# Altium schematic symbol library led.SchLib: 42 symbols
Pins are listed as number, name and electrical type; pins without a type are passive.

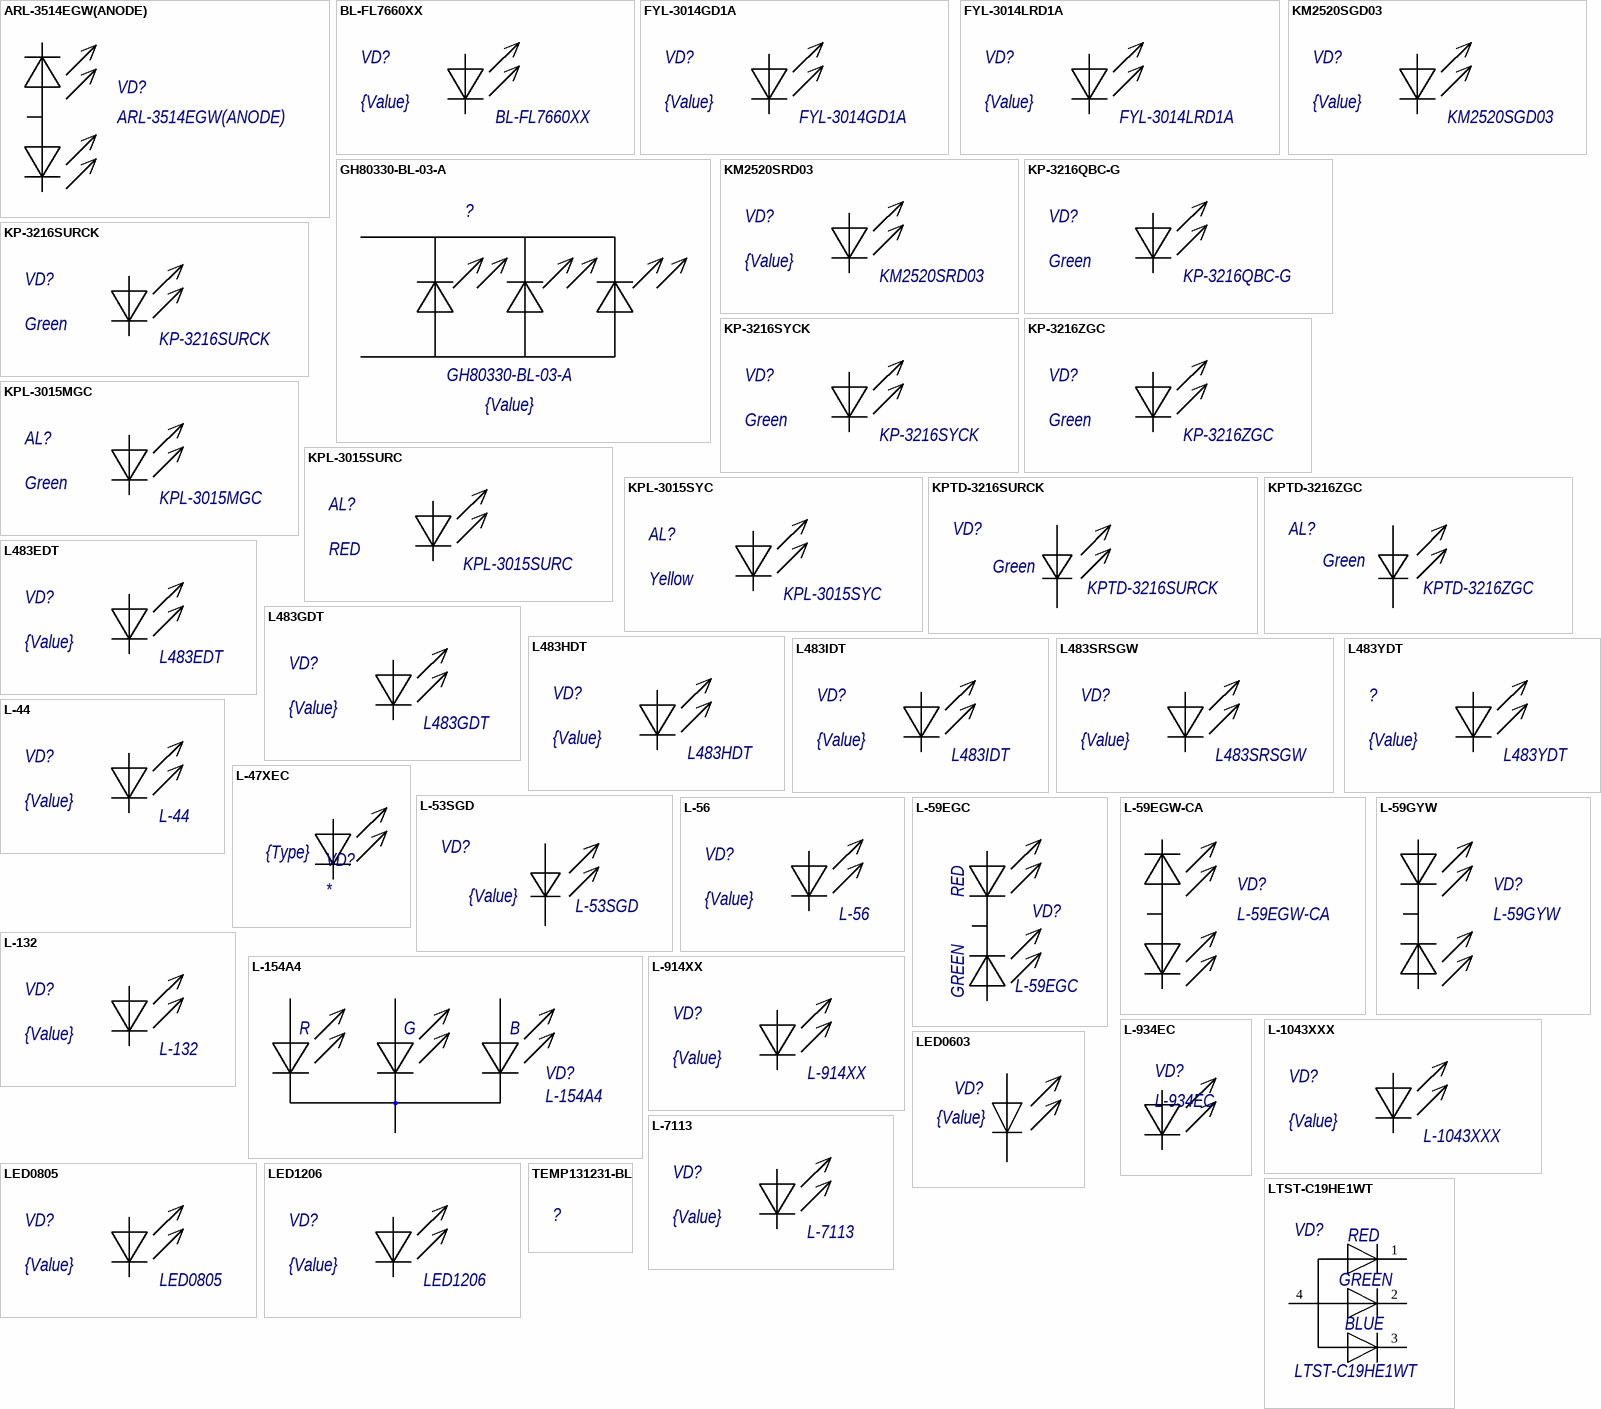
[diagram p0: symbols ARL-3514EGW(ANODE) to TEMP131231-BL]

## ARL-3514EGW(ANODE)
designator VD?
Value: *
footprint ARL-3514
pins: 1 Red, 2 Anode, 3 Green

## BL-FL7660XX
designator VD?  value {Value}
footprint BL-FL7660XX
pins: 1 C, 2 C, 3 A, 4 A

## FYL-3014GD1A
designator VD?  value {Value}
footprint L-44
pins: 1 A, 2 K

## FYL-3014LRD1A
designator VD?  value {Value}
footprint L-44
pins: 1 A, 2 K

## GH80330-BL-03-A
designator ?  value {Value}
footprint GH80330-BL-03-A
pins: 1 K, 2 A

## KM2520SGD03
designator VD?  value {Value}
footprint KM2520
pins: 1 A, 2 K

## KM2520SRD03
designator VD?  value {Value}
footprint KM2520_KM2520SRD03(Primary)
pins: 1 A, 2 K

## KP-3216QBC-G
designator VD?  value Green
footprint SMD3_2X1_6
pins: 1 A, 2 K

## KP-3216SURCK
designator VD?  value Green
footprint SMD3_2X1_6
pins: 1 A, 2 K

## KP-3216SYCK
designator VD?  value Green
footprint SMD3_2X1_6
pins: 1 A, 2 K

## KP-3216ZGC
designator VD?  value Green
footprint SMD3_2X1_6
pins: 1 A, 2 K

## KPL-3015MGC
designator AL?  value Green
footprint SMD1106
pins: 1 A, 2 K

## KPL-3015SURC
designator AL?  value RED
footprint SMD1106
pins: 1 A, 2 K

## KPL-3015SYC
designator AL?  value Yellow
footprint SMD1106
pins: 1 A, 2 K

## KPTD-3216SURCK
designator VD?  value Green
footprint SMD3_2X1_6
pins: 1 A, 2 K

## KPTD-3216ZGC
designator AL?  value Green
footprint SMD3_2X1_6
pins: 1 A, 2 K

## L483EDT
designator VD?  value {Value}
footprint L483
pins: 1 K, 2 A

## L483GDT
designator VD?  value {Value}
footprint L483
pins: 1 K, 2 A

## L483HDT
designator VD?  value {Value}
footprint L483
pins: 1 K, 2 A

## L483IDT
designator VD?  value {Value}
footprint L483
pins: 1 K, 2 A

## L483SRSGW
designator VD?  value {Value}
footprint L483
pins: 1 K, 2 A

## L483YDT
designator ?  value {Value}
footprint L483
pins: 1 K, 2 A

## L-44
designator VD?  value {Value}
footprint L-44
pins: 1 A, 2 K

## L-47XEC
designator VD?  Type: {Type}
LED RED
footprint L-47
pins: 1 K, 2 A

## L-53SGD
designator VD?  value {Value}
footprint LED-5MM (green)
footprint LED-5MM (orange)
footprint LED-5MM (red)
pins: 1 A, 2 K

## L-56
designator VD?  value {Value}
footprint LED-5MM
pins: 1 A, 2 K

## L-59EGC
designator VD?
Value: *
footprint L-59GYW
pins: 1 RED, 2 COM, 3 GREEN

## L-59EGW-CA
designator VD?
Value: *
footprint L-59GYW
pins: 1 Red, 2 Anode, 3 Green

## L-59GYW
designator VD?
Value: *
footprint L-59GYW
pins: 1 G, 2, 3 Y

## L-132
designator VD?  value {Value}
footprint L-132
pins: 1 A, 2 K

## L-154A4
designator VD?
Value: *
footprint L-154
pins: 1 RED, 2 COM, 3 BLUE, 4 GREEN
text: R; G; B

## L-914XX
designator VD?  value {Value}
footprint L-914XX
pins: 1 A, 2 K

## L-934EC
designator VD?
Led Red. Water clear; Value: {Value}
footprint L-934
pins: 1 A, 2 K

## L-1043XXX
designator VD?  value {Value}
footprint L-1043XXX
pins: 1 A, 2 K

## L-7113
designator VD?  value {Value}
footprint LED-5MM
pins: 1 A, 2 K

## LED0603
designator VD?  value {Value}  (hidden comment: LED0603)
footprint SMD0603
pins: 1 A, 2 K

## LED0805
designator VD?  value {Value}
footprint SMD0805
pins: 1 K, 2 A

## LED1206
designator VD?  value {Value}
footprint SMD1206
pins: 1 K, 2 A

## LTST-C19HE1WT
designator VD?
RGB led
footprint RGB_LED
pins: 1 K, 2 K, 3 K, 4
text: RED; GREEN; BLUE

## TEMP131231-BL
designator ?  (value not drawn)
Value: *
footprint TEMP131231-BL
pins: 1 K hidden, 2 A hidden

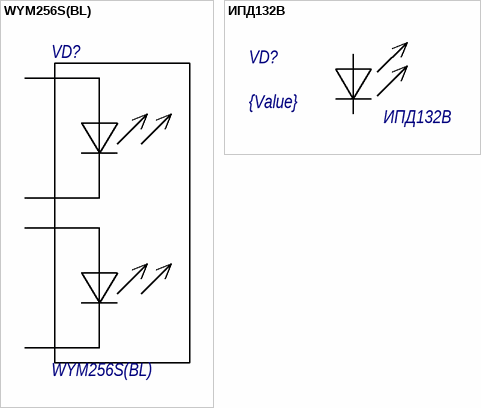
[diagram p1: symbols WYM256S(BL) to ИПД132В]

## WYM256S(BL)
designator VD?
Backlight
footprint WYM256S(BL) (Baklight LCD)
pins: 1 A1, 2 K1, 3 A2, 4 K2

## ИПД132В
designator VD?  value {Value}
footprint ИПД132_РИС1
pins: 1, 2